# Altium footprint library XT60+MR60.PcbLib: 1 footprints
Each footprint in its own frame and in the unit in brackets; x right, y up, seen from the top. Pads: shape width x height; smd on the part's side, far side on the other; paste and mask are expansions set on the pad; w line width, h text height; cw(c..) or ccw(c..) is an arc to the next point about the centre after c.
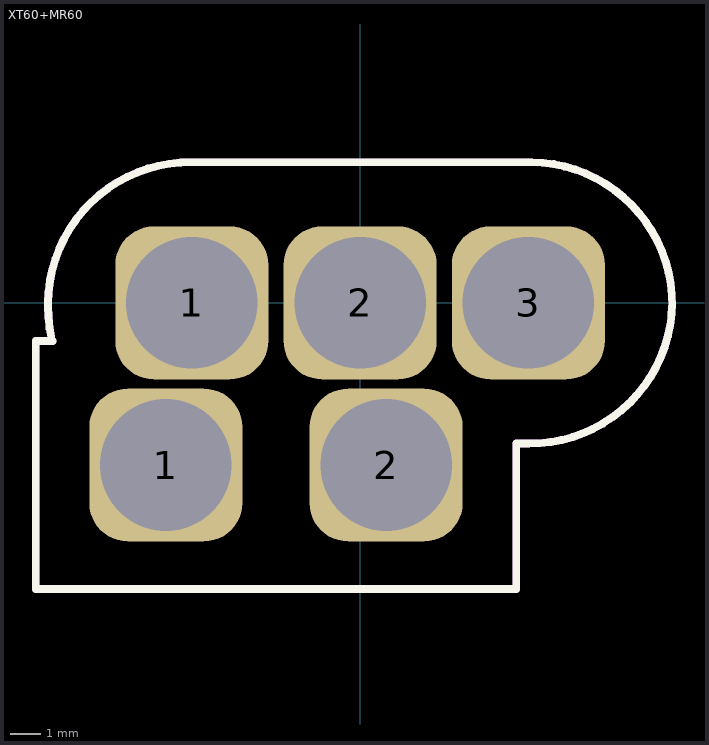
[diagram p0: the footprint, top view; thin cyan lines are the x and y axes]

## XT60+MR60 [mm]
pads (5):
  rrect50% 5x5 hole 4.3 paste-2539.97: 1(-6.35,-5.3) 1(-5.5,0) 2(0,0) 2(0.85,-5.3) 3(5.5,0)
Top Overlay:
  lines w0.254: -10.2,-0.1 ccw(c-5.55,-0.15) -10.079,-1.205 ; -10.2,0 cw(c-5.55,-0.05) -5.5,4.6 5.6,4.6 cw(c5.55,-0.05) 10.2,-0.1 ; -10.05,-1.25 -10.6,-1.25 -10.6,-9.35 5.1,-9.35 5.1,-4.6 5.5,-4.6 ccw(c5.55,0.05) 10.2,0
Mechanical 1:
  lines w0.254: -10.2,-0.1 ccw(c-5.55,-0.15) -10.079,-1.205 ; -10.2,0 cw(c-5.55,-0.05) -5.5,4.6 5.6,4.6 cw(c5.55,-0.05) 10.2,-0.1 ; -10.05,-1.25 -10.6,-1.25 -10.6,-9.35 5.1,-9.35 5.1,-4.6 5.5,-4.6 ccw(c5.55,0.05) 10.2,0